# EAGLE library part PIC16F505 (library FaBo-MPU)
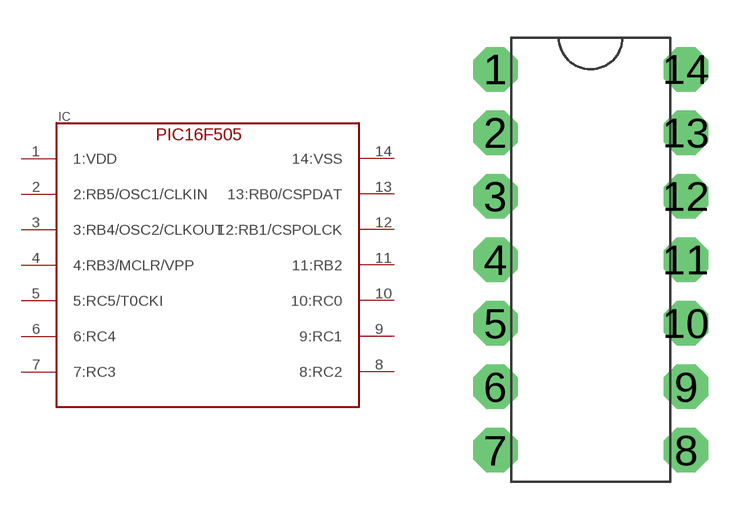
[diagram p6: symbol with the pads of PDIP-14; footprint PDIP-14]

Designator prefix IC

## PIC16F505  [PDIP-14]
1  1:VDD
2  2:RB5/OSC1/CLKIN
3  3:RB4/OSC2/CLKOUT
4  4:RB3/MCLR/VPP
5  5:RC5/T0CKI
6  6:RC4
7  7:RC3
8  8:RC2
9  9:RC1
10  10:RC0
11  11:RB2
12  12:RB1/CSPOLCK
13  13:RB0/CSPDAT
14  14:VSS

## Footprint PDIP-14 (pad centres in mm)
drill 1 pad 1.778 octagon: 1 -3.81,3.81; 2 -3.81,1.27; 3 -3.81,-1.27; 4 -3.81,-3.81; 5 -3.81,-6.35; 6 -3.81,-8.89; 7 -3.81,-11.43; 8 3.81,-11.43; 9 3.81,-8.89; 10 3.81,-6.35; 11 3.81,-3.81; 12 3.81,-1.27; 13 3.81,1.27; 14 3.81,3.81